# Altium footprint library CB_ChipInductor.PcbLib: 6 footprints
Each footprint in its own frame and in the unit in brackets; x right, y up, seen from the top. Pads: shape width x height; smd on the part's side, far side on the other; paste and mask are expansions set on the pad; w line width, h text height; cw(c..) or ccw(c..) is an arc to the next point about the centre after c.
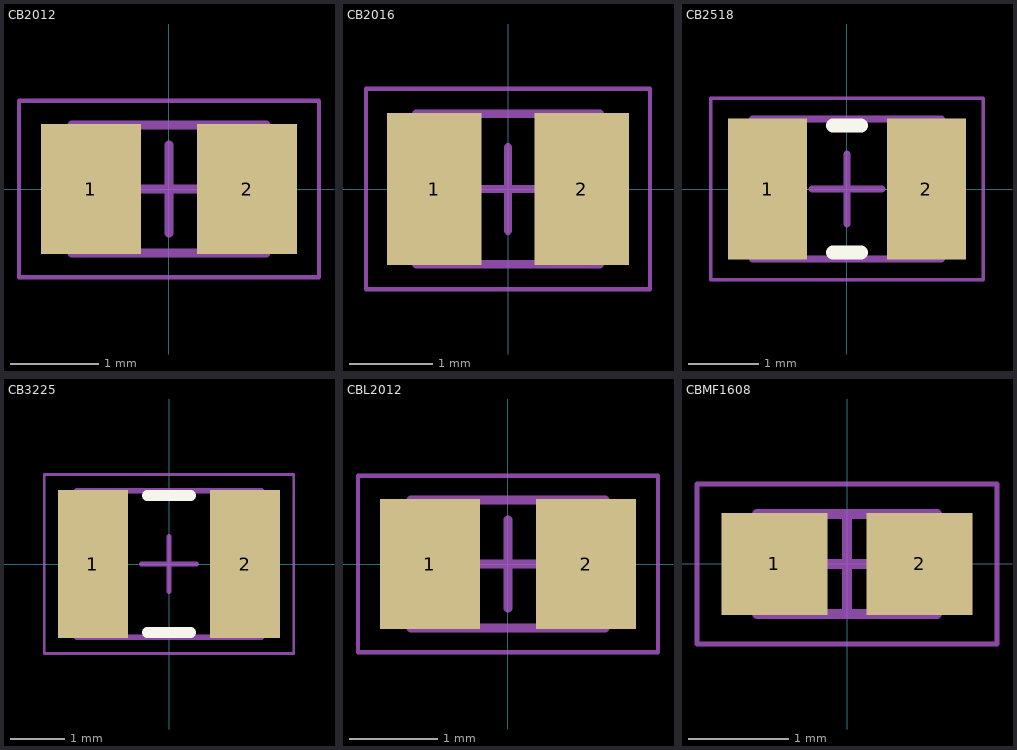
[diagram p0: the footprints below, top view; thin cyan lines are the x and y axes]

## CB2012 [mm]
height 1.45
pads (2):
  rect 1.13x1.47 smd: 1(-0.885,0) 2(0.885,0)
Mechanical 13:
  lines w0.1: -1.1,-0.725 1.1,-0.725 1.1,0.725 -1.1,0.725 -1.1,-0.725
Mechanical 15:
  lines w0.05: -1.7,-1 1.7,-1 1.7,1 -1.7,1 -1.7,-1
  lines w0.1: -0.5,0 0.5,0 ; 0,-0.5 0,0.5
3D body "CB2012.step": height 1, standoff 0, extent -1.1,-0.725 1.1,0.725

## CB2016 [mm]
height 1.8
pads (2):
  rect 1.13x1.82 smd: 1(-0.885,0) 2(0.885,0)
Mechanical 13:
  lines w0.1: -1.1,-0.9 1.1,-0.9 1.1,0.9 -1.1,0.9 -1.1,-0.9
Mechanical 15:
  lines w0.05: -1.7,-1.2 1.7,-1.2 1.7,1.2 -1.7,1.2 -1.7,-1.2
  lines w0.1: -0.5,0 0.5,0 ; 0,-0.5 0,0.5
3D body "CB2016.step": height 1.8, standoff 0, extent -1.1,-0.9 1.1,0.9

## CB2518 [mm]
height 2
pads (2):
  rect 1.13x2.02 smd: 1(-1.135,0) 2(1.135,0)
Top Overlay:
  lines w0.2: -0.2,-0.91 0.2,-0.91 ; -0.2,0.91 0.2,0.91
Mechanical 13:
  lines w0.1: -1.35,-1 1.35,-1 1.35,1 -1.35,1 -1.35,-1
Mechanical 15:
  lines w0.05: -1.95,-1.3 1.95,-1.3 1.95,1.3 -1.95,1.3 -1.95,-1.3
  lines w0.1: -0.5,0 0.5,0 ; 0,-0.5 0,0.5
3D body "CB2518.step": height 2, standoff 0, extent -1.35,-1 1.35,1

## CB3225 [mm]
height 2.7
pads (2):
  rect 1.29x2.72 smd: 1(-1.405,0) 2(1.405,0)
Top Overlay:
  lines w0.2: -0.4,-1.26 0.4,-1.26 ; -0.4,1.26 0.4,1.26
Mechanical 13:
  lines w0.1: -1.7,-1.35 1.7,-1.35 1.7,1.35 -1.7,1.35 -1.7,-1.35
Mechanical 15:
  lines w0.05: -2.3,-1.65 2.3,-1.65 2.3,1.65 -2.3,1.65 -2.3,-1.65
  lines w0.1: -0.5,0 0.5,0 ; 0,-0.5 0,0.5
3D body "CB3225.step": height 2.7, standoff 0, extent -1.7,-1.35 1.7,1.35

## CBL2012 [mm]
height 1
pads (2):
  rect 1.13x1.47 smd: 1(-0.885,0) 2(0.885,0)
Mechanical 13:
  lines w0.1: -1.1,-0.725 1.1,-0.725 1.1,0.725 -1.1,0.725 -1.1,-0.725
Mechanical 15:
  lines w0.05: -1.7,-1 1.7,-1 1.7,1 -1.7,1 -1.7,-1
  lines w0.1: -0.5,0 0.5,0 ; 0,-0.5 0,0.5
3D body "CB2012.step": height 1, standoff 0, extent -1.1,-0.725 1.1,0.725

## CBMF1608 [mm] "Chip Inductor, 2-Leads, Body 1.60x0.80mm, IPC Medium Density"
height 1
pads (2):
  rect 1.06x1.02 smd: 1(-0.725,0) 2(0.725,0)
Mechanical 13:
  lines w0.1: -0.9,-0.5 0.9,-0.5 0.9,0.5 -0.9,0.5 -0.9,-0.5
Mechanical 15:
  lines w0.05: -1.5,-0.8 1.5,-0.8 1.5,0.8 -1.5,0.8 -1.5,-0.8
  lines w0.1: -0.5,0 0.5,0 ; 0,-0.5 0,0.5
3D body "CBMF1608.step": height 1, standoff 0, extent -0.9,-0.5 0.9,0.5